# Altium schematic symbol library AMS1117.Schlib: 1 symbol
Pins are listed as number, name and electrical type; pins without a type are passive.

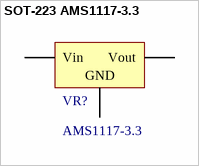
[diagram p0: symbol SOT-223 AMS1117-3.3]

## SOT-223 AMS1117-3.3
designator VR?, comment AMS1117-3.3
低压差线性稳压(LDO)
footprint SOT-223
pins: 1 GND, 2 Vout, 3 Vin